# EAGLE library part ELECTRON (library Particle-Devices)
Particle Electron footprint
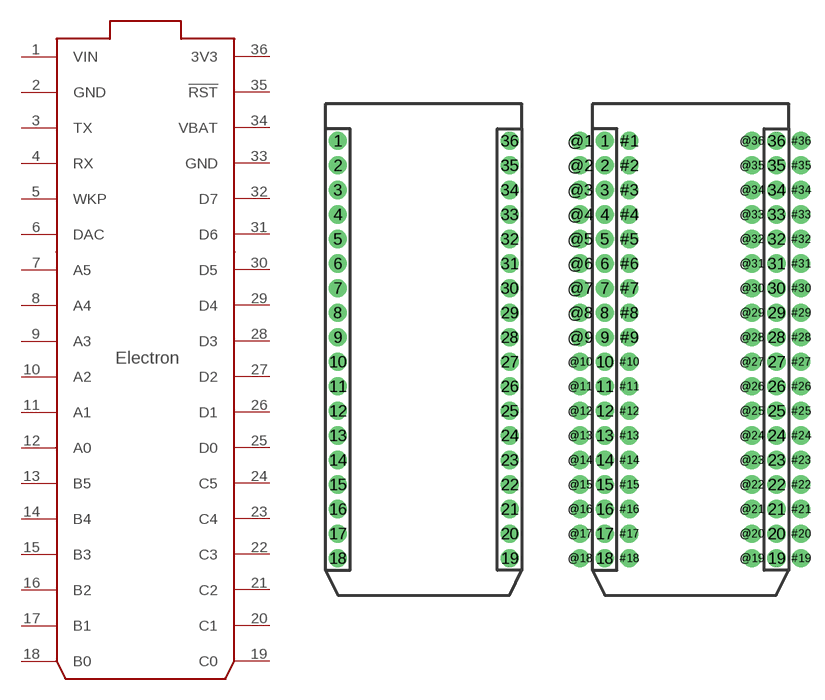
[diagram p1: symbol with the pads of ELECTRON; footprints ELECTRON, ELECTRON_STACKABLE]

Designator prefix -

## ELECTRON_WITH_HEADERS  [ELECTRON]
1  VIN  pwr
2  GND  pwr
3  TX
4  RX
5  WKP
6  DAC
7  A5
8  A4
9  A3
10  A2
11  A1
12  A0
13  B5
14  B4
15  B3
16  B2
17  B1
18  B0
19  C0
20  C1
21  C2
22  C3
23  C4
24  C5
25  D0
26  D1
27  D2
28  D3
29  D4
30  D5
31  D6
32  D7
33  GND  pwr
34  VBAT  pwr
35  !RST
36  3V3  pwr

## ELECTRON_WITH_STACKABLE_HEADERS  [ELECTRON_STACKABLE]
1  VIN  pwr
2  GND  pwr
3  TX
4  RX
5  WKP
6  DAC
7  A5
8  A4
9  A3
10  A2
11  A1
12  A0
13  B5
14  B4
15  B3
16  B2
17  B1
18  B0
19  C0
20  C1
21  C2
22  C3
23  C4
24  C5
25  D0
26  D1
27  D2
28  D3
29  D4
30  D5
31  D6
32  D7
33  GND  pwr
34  VBAT  pwr
35  !RST
36  3V3  pwr
#1  VIN  pwr
#2  GND  pwr
#3  TX
#4  RX
#5  WKP
#6  DAC
#7  A5
#8  A4
#9  A3
#10  A2
#11  A1
#12  A0
#13  B5
#14  B4
#15  B3
#16  B2
#17  B1
#18  B0
#19  C0
#20  C1
#21  C2
#22  C3
#23  C4
#24  C5
#25  D0
#26  D1
#27  D2
#28  D3
#29  D4
#30  D5
#31  D6
#32  D7
#33  GND  pwr
#34  VBAT  pwr
#35  !RST
#36  3V3  pwr
@1  VIN  pwr
@2  GND  pwr
@3  TX
@4  RX
@5  WKP
@6  DAC
@7  A5
@8  A4
@9  A3
@10  A2
@11  A1
@12  A0
@13  B5
@14  B4
@15  B3
@16  B2
@17  B1
@18  B0
@19  C0
@20  C1
@21  C2
@22  C3
@23  C4
@24  C5
@25  D0
@26  D1
@27  D2
@28  D3
@29  D4
@30  D5
@31  D6
@32  D7
@33  GND  pwr
@34  VBAT  pwr
@35  !RST
@36  3V3  pwr

## Footprint ELECTRON (pad centres in mm)
drill 1.016 pad 1.88: 1 1.27,46.99; 2 1.27,44.45; 3 1.27,41.91; 4 1.27,39.37; 5 1.27,36.83; 6 1.27,34.29; 7 1.27,31.75; 8 1.27,29.21; 9 1.27,26.67; 10 1.27,24.13; 11 1.27,21.59; 12 1.27,19.05; 13 1.27,16.51; 14 1.27,13.97; 15 1.27,11.43; 16 1.27,8.89; 17 1.27,6.35; 18 1.27,3.81; 19 19.05,3.81; 20 19.05,6.35; 21 19.05,8.89; 22 19.05,11.43; 23 19.05,13.97; 24 19.05,16.51; 25 19.05,19.05; 26 19.05,21.59; 27 19.05,24.13; 28 19.05,26.67; 29 19.05,29.21; 30 19.05,31.75; 31 19.05,34.29; 32 19.05,36.83; 33 19.05,39.37; 34 19.05,41.91; 35 19.05,44.45; 36 19.05,46.99

## Footprint ELECTRON_STACKABLE (pad centres in mm)
drill 1.016 pad 1.88: 1 1.27,46.99; 2 1.27,44.45; 3 1.27,41.91; 4 1.27,39.37; 5 1.27,36.83; 6 1.27,34.29; 7 1.27,31.75; 8 1.27,29.21; 9 1.27,26.67; 10 1.27,24.13; 11 1.27,21.59; 12 1.27,19.05; 13 1.27,16.51; 14 1.27,13.97; 15 1.27,11.43; 16 1.27,8.89; 17 1.27,6.35; 18 1.27,3.81; 19 19.05,3.81; 20 19.05,6.35; 21 19.05,8.89; 22 19.05,11.43; 23 19.05,13.97; 24 19.05,16.51; 25 19.05,19.05; 26 19.05,21.59; 27 19.05,24.13; 28 19.05,26.67; 29 19.05,29.21; 30 19.05,31.75; 31 19.05,34.29; 32 19.05,36.83; 33 19.05,39.37; 34 19.05,41.91; 35 19.05,44.45; 36 19.05,46.99; #1 3.81,46.99; #2 3.81,44.45; #3 3.81,41.91; #4 3.81,39.37; #5 3.81,36.83; #6 3.81,34.29; #7 3.81,31.75; #8 3.81,29.21; #9 3.81,26.67; #10 3.81,24.13; #11 3.81,21.59; #12 3.81,19.05; #13 3.81,16.51; #14 3.81,13.97; #15 3.81,11.43; #16 3.81,8.89; #17 3.81,6.35; #18 3.81,3.81; #19 21.59,3.81; #20 21.59,6.35; #21 21.59,8.89; #22 21.59,11.43; #23 21.59,13.97; #24 21.59,16.51; #25 21.59,19.05; #26 21.59,21.59; #27 21.59,24.13; #28 21.59,26.67; #29 21.59,29.21; #30 21.59,31.75; #31 21.59,34.29; #32 21.59,36.83; #33 21.59,39.37; #34 21.59,41.91; #35 21.59,44.45; #36 21.59,46.99; @1 -1.27,46.99; @2 -1.27,44.45; @3 -1.27,41.91; @4 -1.27,39.37; @5 -1.27,36.83; @6 -1.27,34.29; @7 -1.27,31.75; @8 -1.27,29.21; @9 -1.27,26.67; @10 -1.27,24.13; @11 -1.27,21.59; @12 -1.27,19.05; @13 -1.27,16.51; @14 -1.27,13.97; @15 -1.27,11.43; @16 -1.27,8.89; @17 -1.27,6.35; @18 -1.27,3.81; @19 16.51,3.81; @20 16.51,6.35; @21 16.51,8.89; @22 16.51,11.43; @23 16.51,13.97; @24 16.51,16.51; @25 16.51,19.05; @26 16.51,21.59; @27 16.51,24.13; @28 16.51,26.67; @29 16.51,29.21; @30 16.51,31.75; @31 16.51,34.29; @32 16.51,36.83; @33 16.51,39.37; @34 16.51,41.91; @35 16.51,44.45; @36 16.51,46.99